# EAGLE library part 16LEDSINAROW (library jasons_stuff)
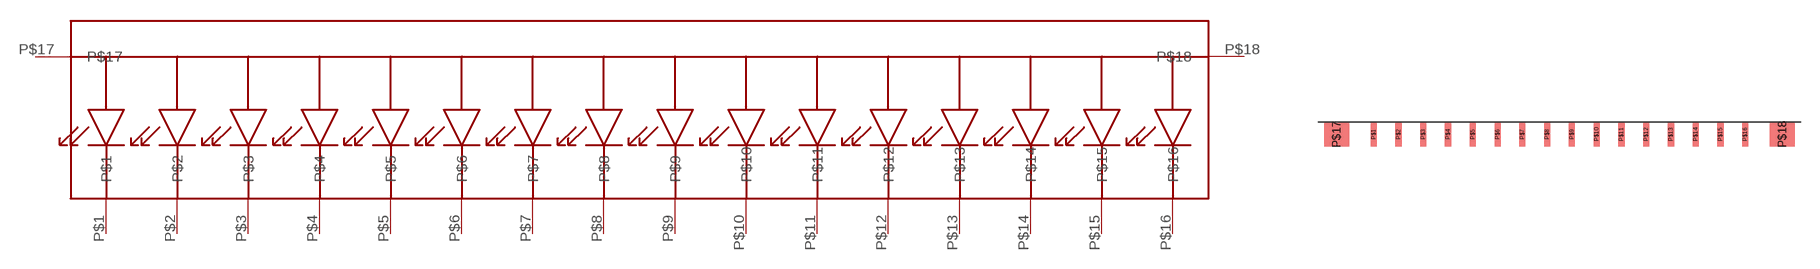
[diagram p11: symbol with the pads of 16LEDSINAROW; footprint 16LEDSINAROW]

Designator prefix -

## 16LEDSINAROW  [16LEDSINAROW]
P$1  P$1
P$2  P$2
P$3  P$3
P$4  P$4
P$5  P$5
P$6  P$6
P$7  P$7
P$8  P$8
P$9  P$9
P$10  P$10
P$11  P$11
P$12  P$12
P$13  P$13
P$14  P$14
P$15  P$15
P$16  P$16
P$17  P$17
P$18  P$18

## Footprint 16LEDSINAROW (pad centres in mm)
smd 0.5 x 2: P$1 -1.5,0; P$2 0.5,0; P$3 2.5,0; P$4 4.5,0; P$5 6.5,0; P$6 8.5,0; P$7 10.5,0; P$8 12.5,0; P$9 14.5,0; P$10 16.5,0; P$11 18.5,0; P$12 20.5,0; P$13 22.5,0; P$14 24.5,0; P$15 26.5,0; P$16 28.5,0
smd 2 x 2: P$17 -4.5,0; P$18 31.5,0